# Altium schematic symbol library IMU_Breakout_SCHLIB.SchLib: 2 symbols
Pins are listed as number, name and electrical type; pins without a type are passive.

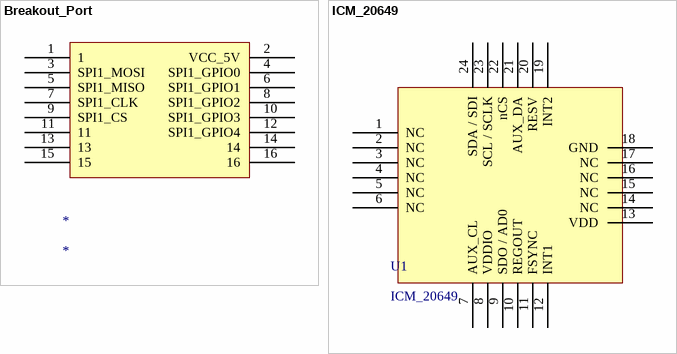
[diagram p0: symbols Breakout_Port to ICM_20649]

## Breakout_Port
designator *
pins: 1, 2 VCC_5V, 3 SPI1_MOSI, 4 SPI1_GPIO0, 5 SPI1_MISO, 6 SPI1_GPIO1, 7 SPI1_CLK, 8 SPI1_GPIO2, 9 SPI1_CS, 10 SPI1_GPIO3, 11, 12 SPI1_GPIO4, 13, 14, 15, 16

## ICM_20649
designator U1
IMU
pins: 1 NC, 2 NC, 3 NC, 4 NC, 5 NC, 6 NC, 7 AUX_CL, 8 VDDIO, 9 SDO / AD0, 10 REGOUT, 11 FSYNC, 12 INT1, 13 VDD, 14 NC, 15 NC, 16 NC, 17 NC, 18 GND, 19 INT2, 20 RESV, 21 AUX_DA, 22 nCS, 23 SCL / SCLK, 24 SDA / SDI